# Altium footprint library Amplificador monolitico.PcbLib: 2 footprints
Each footprint in its own frame and in the unit in brackets; x right, y up, seen from the top. Pads: shape width x height; smd on the part's side, far side on the other; paste and mask are expansions set on the pad; w line width, h text height; cw(c..) or ccw(c..) is an arc to the next point about the centre after c.
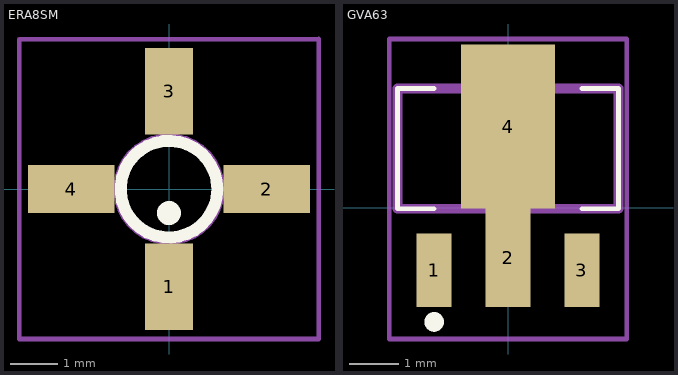
[diagram p0: the footprints below, top view; thin cyan lines are the x and y axes]

## ERA8SM [mm]
pads (4):
  rect 1.02x1.83 smd: 1(0,-2.07) 3(0,2.07)
  rect 1.83x1.02 smd: 2(2.07,0) 4(-2.07,0)
Top Overlay:
  circle w0.254: c0,-0.508 r0.127
  circle w0.254: c0,0 r1.024
Mechanical 13:
  lines w0.2: 0,-1.08 ccw(c0,0) 0,1.08 ccw(c0,0) 0,-1.08
Mechanical 15:
  lines w0.1: 3.175,3.175 -3.175,3.175 -3.175,-3.175 3.175,-3.175 3.175,3.18
3D body "monolitico amplificador.STEP": height 1.52, standoff -0.1, extent -2.34,-2.295 2.34,2.34

## GVA63 [mm]
pads (4):
  rect 0.711x1.5 smd: 1(-1.5,-1.27) 3(1.5,-1.27)
  rect 0.914x2 smd: 2(0,-1.016)
  rect 1.905x3.334 smd: 4(0,1.647)
Top Overlay:
  lines w0.1: -1.5,-0.02 -2.248,-0.02 -2.248,2.42 -1.5,2.42 ; 1.5,-0.02 2.248,-0.02 2.248,2.42 1.5,2.42
  lines w0.2: -1.5,-2.42 cw(c-1.5,-2.32) -1.5,-2.22 cw(c-1.5,-2.32) -1.5,-2.42
Mechanical 13:
  lines w0.2: -2.248,-0.02 -2.248,2.42 2.248,2.42 2.248,-0.02 -2.248,-0.02
Mechanical 15:
  lines w0.1: -2.413,-2.667 -2.413,3.429 2.413,3.429 2.413,-2.667 -2.413,-2.667
3D body "SOT89-3.STEP": height 1.54, standoff 0, extent -2.25,-1.742 2.25,2.508